# EAGLE library part 74AC373MTC (library Fairchild_By_element14_Batch_1)
Octal Transparent Latch with 3-STATE Outputs
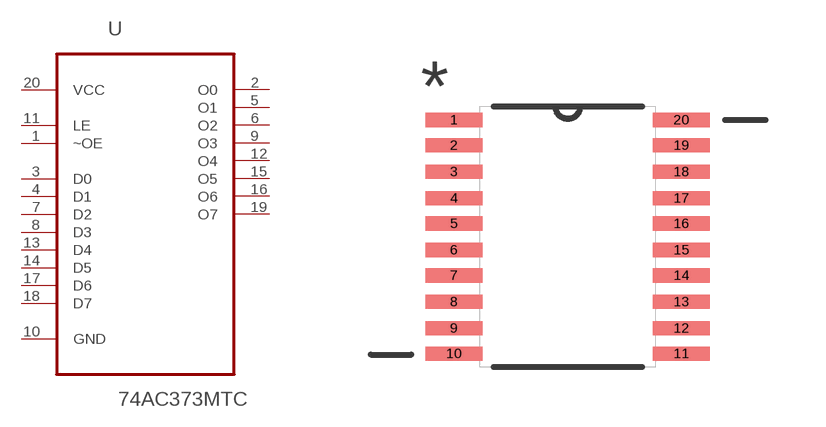
[diagram p27: symbol with the pads of SOP65P640X120-20N; footprint SOP65P640X120-20N]

Designator prefix U

## 74AC373MTC (MPN: 74AC373MTC; OC_FARNELL: -; OC_NEWARK: 78K6229; PACKAGE: TSSOP-20; SUPPLIER: FAIRCHILD)  [SOP65P640X120-20N]
1  ~OE  in
2  O0  out
3  D0  in
4  D1  in
5  O1  out
6  O2  out
7  D2  in
8  D3  in
9  O3  out
10  GND  pas
11  LE  in
12  O4  out
13  D4  in
14  D5  in
15  O5  out
16  O6  out
17  D6  in
18  D7  in
19  O7  out
20  VCC  pwr

## Footprint SOP65P640X120-20N (pad centres in mm)
smd 1.422 x 0.356: 1 -2.845,2.921; 2 -2.845,2.286; 3 -2.845,1.626; 4 -2.845,0.965; 5 -2.845,0.33; 6 -2.845,-0.33; 7 -2.845,-0.965; 8 -2.845,-1.626; 9 -2.845,-2.286; 10 -2.845,-2.921; 11 2.845,-2.921; 12 2.845,-2.286; 13 2.845,-1.626; 14 2.845,-0.965; 15 2.845,-0.33; 16 2.845,0.33; 17 2.845,0.965; 18 2.845,1.626; 19 2.845,2.286; 20 2.845,2.921